# Altium schematic symbol library Test_Point.SchLib: 1 symbol
Pins are listed as number, name and electrical type; pins without a type are passive.

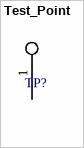
[diagram p0: symbol Test_Point]

## Test_Point
designator TP?
footprint PCBComponent_1
pins: 1